# EAGLE library part ARDUINO_COMPAT_IF (library PartsForProto)
Arduino互換ピンインターフェース
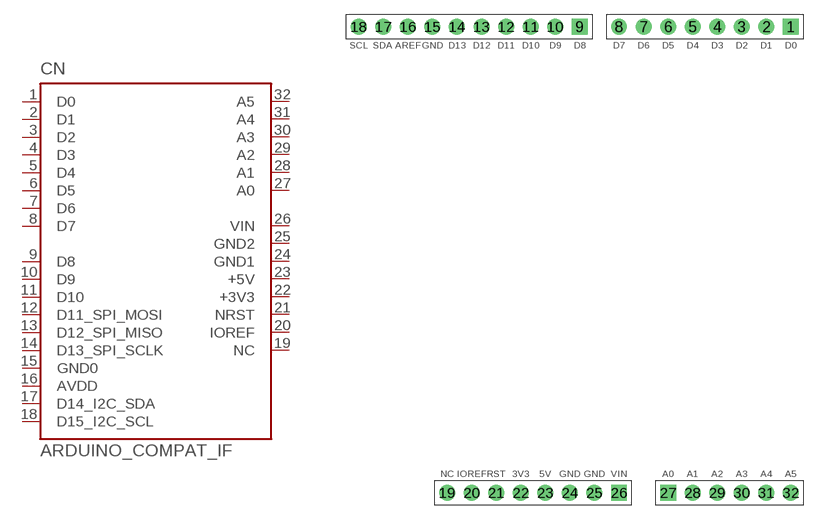
[diagram p25: symbol with the pads of ARDUINO_COMPAT_IF; footprint ARDUINO_COMPAT_IF]

Designator prefix CN

## ARDUINO_COMPAT_IF  [ARDUINO_COMPAT_IF]
1  D0
2  D1
3  D2
4  D3
5  D4
6  D5
7  D6
8  D7
9  D8
10  D9
11  D10
12  D11_SPI_MOSI
13  D12_SPI_MISO
14  D13_SPI_SCLK
15  GND0  pas
16  AVDD  pas
17  D14_I2C_SDA  pas
18  D15_I2C_SCL  pas
19  NC  nc
20  IOREF
21  NRST
22  +3V3  pas
23  +5V  pas
24  GND1  pas
25  GND2  pas
26  VIN  pas
27  A0
28  A1
29  A2
30  A3
31  A4
32  A5

## Footprint ARDUINO_COMPAT_IF (pad centres in mm)
Arduino互換ピン レイアウトパターン
drill 0.889 pad 1.651 square: 1 63.5,50.8; 9 41.656,50.8; 26 45.72,2.54; 27 50.8,2.54
drill 0.889 pad 1.651: 2 60.96,50.8; 3 58.42,50.8; 4 55.88,50.8; 5 53.34,50.8; 6 50.8,50.8; 7 48.26,50.8; 8 45.72,50.8; 10 39.116,50.8; 11 36.576,50.8; 12 34.036,50.8; 13 31.496,50.8; 14 28.956,50.8; 15 26.416,50.8; 16 23.876,50.8; 17 21.336,50.8; 18 18.796,50.8; 19 27.94,2.54; 20 30.48,2.54; 21 33.02,2.54; 22 35.56,2.54; 23 38.1,2.54; 24 40.64,2.54; 25 43.18,2.54; 28 53.34,2.54; 29 55.88,2.54; 30 58.42,2.54; 31 60.96,2.54; 32 63.5,2.54